# Altium footprint library SG_PCB_AltSobor_work.PcbLib: 52 footprints (part 3 of 4)
Each footprint in its own frame and in the unit in brackets; x right, y up, seen from the top. Pads: shape width x height; smd on the part's side, far side on the other; paste and mask are expansions set on the pad; w line width, h text height; cw(c..) or ccw(c..) is an arc to the next point about the centre after c.
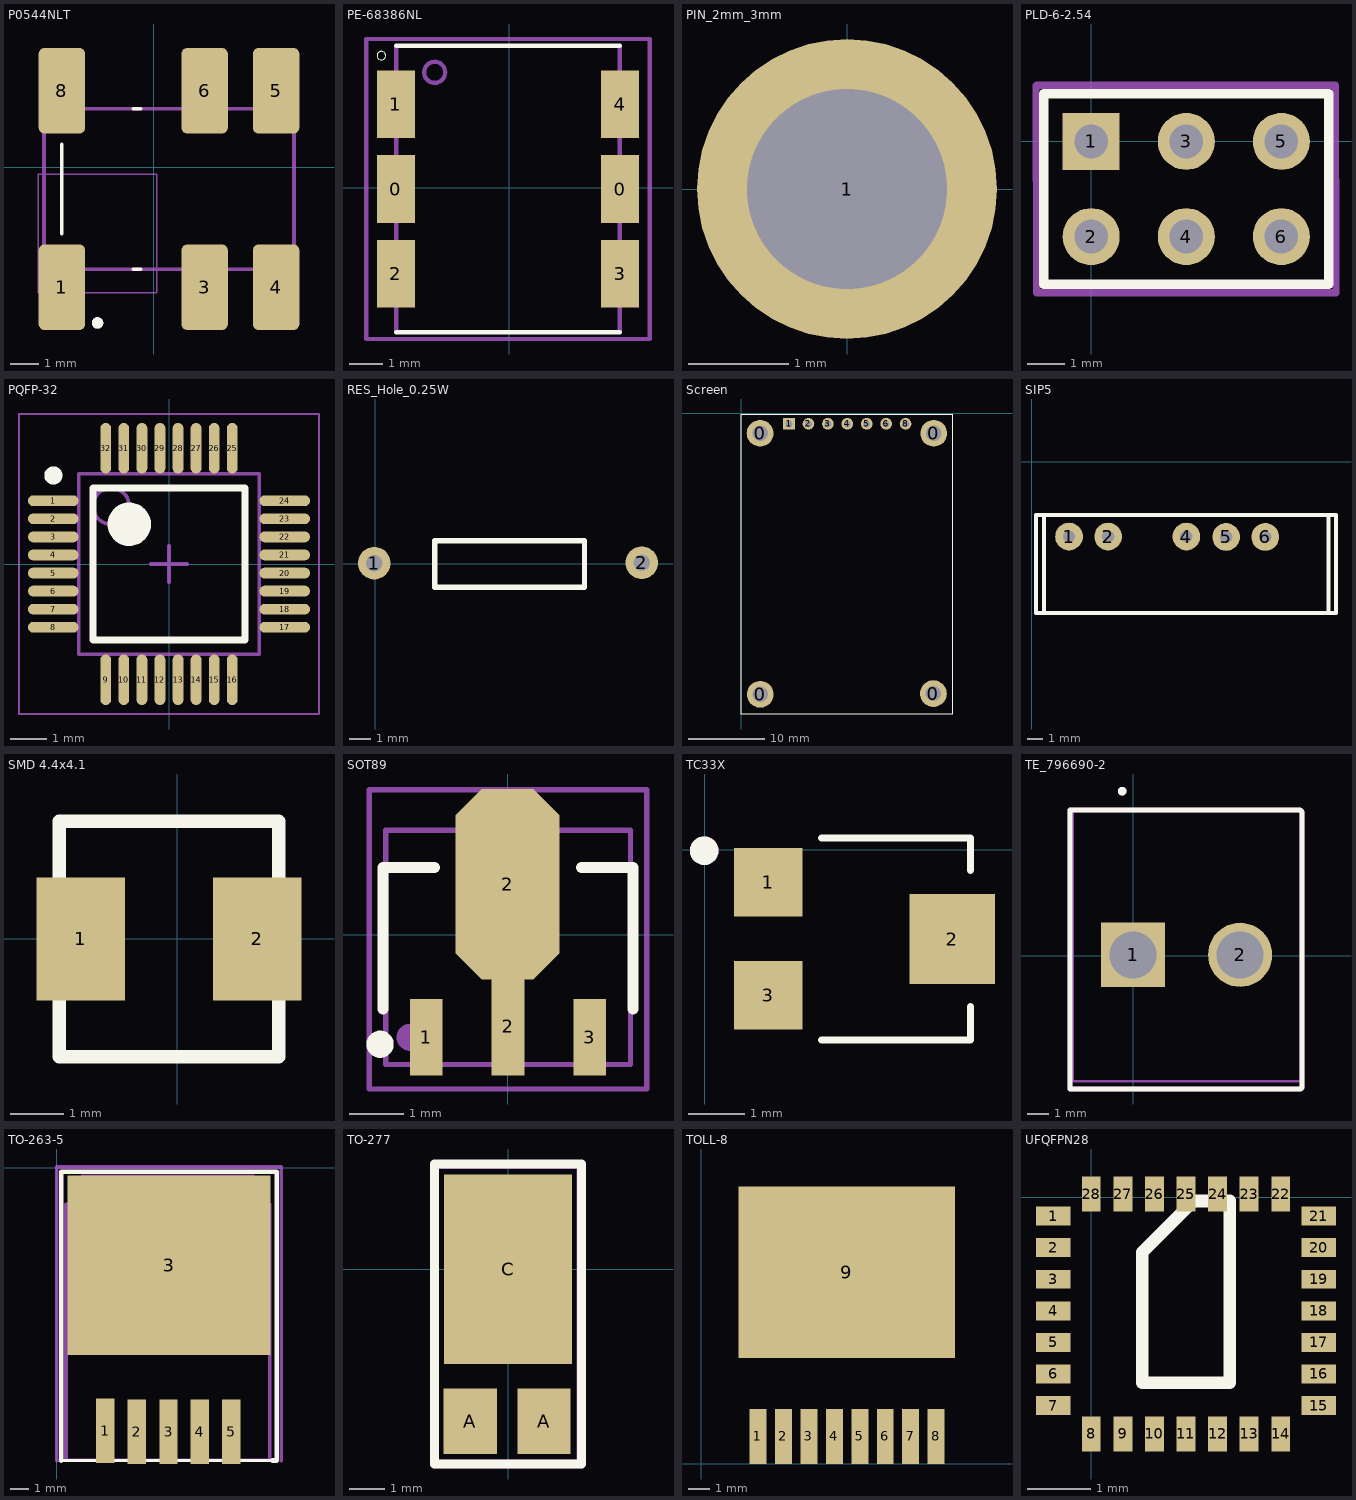
[diagram p2: the footprints below, top view; thin cyan lines are the x and y axes]

## P0544NLT [mm]
pads (6):
  rrect25% 1.651x3.048 smd: 1(-3.26,-4.27) 3(1.82,-4.27) 4(4.36,-4.27) 5(4.36,2.715) 6(1.82,2.715) 8(-3.26,2.715)
Top Overlay:
  circle w0.203: c-1.99,-5.54 r0.102
  lines w0.127: -3.26,-2.365 -3.26,0.81 ; -0.72,-3.635 -0.45,-3.635 ; -0.72,2.08 -0.45,2.08
Mechanical 16:
  circle w0.203: c-1.99,-5.54 r0.102
  lines w0.127: -3.895,-3.635 -3.895,2.08 4.995,2.08 4.995,-3.635 -3.895,-3.635
Mechanical 27:
  lines w0.051: -4.098,-4.47 -4.098,-0.257 0.115,-0.257 0.115,-4.47 -4.098,-4.47

## PE-68386NL [mil]
pads (6):
  rect 45x80 smd: 0(-134.07,-1.38) 0(130.93,-1.38) 1(-134.07,98.62) 2(-134.07,-101.38) 3(130.93,-101.38) 4(130.93,98.62)
Top Overlay:
  circle w0: c-151.18,156.1 r5
  lines w5: -133.46,-170.67 130.31,-170.67 ; -133.46,167.91 130.31,167.91
Mechanical 13:
  circle w5: c-88.19,136.42 r12.45
  lines w5: -133.46,-170.67 -133.46,167.91 ; 130.31,-170.67 130.31,167.91
Mechanical 15:
  lines w5: -168.9,-178.54 -168.9,175.79 165.75,175.79 165.75,-178.54 -168.9,-178.54
3D body "PE-68386NL--3DModel-Eagle-1.STEP": height 90, standoff -8, extent -171.5,-136.44 168.5,128.56

## PIN_2mm_3mm [mm]
pads (1):
  round 3 hole 2: 1(0,0)

## PLD-6-2.54 [mm]
pads (6):
  rect 1.524x1.524 hole 0.9: 1(0.005,0)
  round 1.524 hole 0.9: 2(0.005,-2.54) 3(2.545,0) 4(2.545,-2.54) 5(5.085,0) 6(5.085,-2.54)
Top Overlay:
  lines w0.254: -1.265,-3.81 -1.265,-1.27 -1.265,1.27 6.355,1.27 6.355,-1.27 6.355,-3.81 -1.265,-3.81
Top Courtyard:
  lines w0.2: -1.47,-1.04 -1.47,1.495 ; -1.455,-1.04 -1.455,-4.04 6.545,-4.04 6.545,-1.04 ; -1.455,1.5 6.53,1.5 6.53,-1.505
3D body "PLS1.stp": height 8.54, standoff -3, extent -1.265,-1.27 1.275,1.27
3D body "PLS1.stp": height 8.54, standoff -3, extent 1.275,-1.27 3.815,1.27
3D body "PLS1.stp": height 8.54, standoff -3, extent 3.815,-1.27 6.355,1.27
3D body "PLS1.stp": height 8.54, standoff -3, extent -1.265,-3.81 1.275,-1.27
3D body "PLS1.stp": height 8.54, standoff -3, extent 1.275,-3.81 3.815,-1.27
3D body "PLS1.stp": height 8.54, standoff -3, extent 3.815,-3.81 6.355,-1.27

## PQFP-32 [mm] "PQFP, 32-Leads, Body 5,00x5,00mm, Pitch 0,50mm, IPC Medium Density"
height 1.2
pads (32):
  oval 1.4x0.3 smd: 1(-3.2,1.75) 2(-3.2,1.25) 3(-3.2,0.75) 4(-3.2,0.25) 5(-3.2,-0.25) 6(-3.2,-0.75) 7(-3.2,-1.25) 8(-3.2,-1.75) 17(3.2,-1.75) 18(3.2,-1.25) 19(3.2,-0.75) 20(3.2,-0.25) 21(3.2,0.25) 22(3.2,0.75) 23(3.2,1.25) 24(3.2,1.75)
  oval 0.3x1.4 smd: 9(-1.75,-3.2) 10(-1.25,-3.2) 11(-0.75,-3.2) 12(-0.25,-3.2) 13(0.25,-3.2) 14(0.75,-3.2) 15(1.25,-3.2) 16(1.75,-3.2) 25(1.75,3.2) 26(1.25,3.2) 27(0.75,3.2) 28(0.25,3.2) 29(-0.25,3.2) 30(-0.75,3.2) 31(-1.25,3.2) 32(-1.75,3.2)
Top Overlay:
  circle w0.25: c-3.2,2.45 r0.125
  circle w0.6: c-1.1,1.1 r0.3
  lines w0.2: -2.1,-2.1 -2.1,2.1 2.1,2.1 2.1,-2.1 -2.1,-2.1
Top Assembly:
  circle w0.1: c-1.6,1.6 r0.5
  lines w0.1: -2.5,-2.5 -2.5,2.5 2.5,2.5 2.5,-2.5 -2.5,-2.5
Top Courtyard:
  lines w0.05: -4.15,-4.15 -4.15,4.15 4.15,4.15 4.15,-4.15 -4.15,-4.15
  lines w0.1: -0.5,0 0.5,0 ; 0,-0.5 0,0.5
3D body "PQFP-32.step": height 1.2, standoff 0, extent -3.5,-3.5 3.5,3.5

## RES_Hole_0.25W [mil]
pads (2):
  round 60 hole 30: 1(-1.57,1.18) 2(491.34,1.97)
Top Overlay:
  lines w10: 110.24,-42.83 110.24,42.17 385.83,42.17 385.83,-42.83 110.24,-42.83
3D body "User Library-resistor 0_25w.STEP": height 100, standoff -120, extent -12.58,-51.18 509.43,48.82

## Screen [mm]
pads (11):
  round 3.5 hole 2: 0(2.485,-2.605) 0(2.5,-36.75) 0(25.15,-36.65) 0(25.195,-2.605)
  rect 1.524x1.524 hole 0.9: 1(6.27,-1.365)
  round 1.524 hole 0.9: 2(8.81,-1.365) 3(11.35,-1.365) 4(13.89,-1.365) 5(16.43,-1.365) 6(18.97,-1.365) 8(21.51,-1.365)
Top Overlay:
  lines w0.15: 0,-39.32 0,-0.1 27.7,-0.1 ; 0,-39.3 27.7,-39.3 27.7,-0.08

## SIP5 [mm]
pads (5):
  round 1.8 hole 0.8: 1(2.425,-4.852) 2(4.965,-4.852) 4(10.045,-4.852) 5(12.631,-4.877) 6(15.171,-4.877)
Top Overlay:
  lines w0.254: 0.785,-9.809 0.785,-3.459 ; 19.265,-9.66 19.265,-3.56 ; 0.277,-9.809 0.277,-3.459 19.765,-3.459 19.765,-9.809 0.277,-9.809
3D body "TMA0505S.stp": height 10.55, standoff -5, extent 0.37,-9.655 19.87,-3.555

## SMD 4.4x4.1 [mm]
pads (2):
  rect 1.65x2.3 smd: 1(-1.8,0) 2(1.5,0)
Top Overlay:
  lines w0.254: -2.2,-2.2 1.9,-2.2 1.9,2.2 -2.2,2.2 -2.2,-2.2

## SOT89 [mm]
pads (5):
  rect 0.6x1.4 smd: 1(-1.498,-1.887) 3(1.502,-1.887)
  oct 1.91x3.5 smd: 2(-0.005,0.925)
  rect 0.6x1.8 smd: 2(0.002,-1.687)
  round 0.5 on Mech1: ""(-1.798,-1.887)
Top Overlay:
  circle w0.25: c-2.348,-2.014 r0.125
  lines w0.2: -2.298,-1.364 -2.298,1.236 -1.348,1.236 ; 1.352,1.236 2.302,1.236 2.302,-1.364
Mechanical 1:
  lines w0.1: -2.248,-2.386 2.252,-2.386 2.252,1.914 -2.248,1.914 -2.248,-2.386
Mechanical 15:
  lines w0.1: -0.498,-0.064 0.502,-0.064 ; 0.002,-0.564 0.002,0.436 ; -2.548,-2.837 -2.548,2.663 2.552,2.663 2.552,-2.837 -2.548,-2.837
3D body "SOT-89.step": height 1.51, standoff 0, extent -2.248,-2.386 2.252,1.914

## TC33X [mil]
pads (3):
  rect 48x48 smd: 1(44.53,-22.56) 3(44.53,-101.93)
  rect 60x63 smd: 2(173.39,-62.56)
Top Overlay:
  circle w10: c-0.58,-0.56 r5
  lines w5: 81.93,-133.43 186.39,-133.43 186.39,-109.8 ; 81.93,8.44 186.39,8.44 186.39,-14.56
Mechanical 16:
  circle w10: c-0.58,-0.56 r5
3D body "TC33X-2-103E.STEP": height 43.31, standoff -3.94, extent 34.06,-120.67 183.66,-2.56

## TE_796690-2 [mm]
pads (2):
  rect 3x3 hole 2.2: 1(-0.01,0.035)
  round 3 hole 2.2: 2(4.99,0.035)
Top Overlay:
  circle w0.2: c-0.525,7.685 r0.1
  lines w0.254: -2.96,-6.235 -2.96,6.805 7.78,6.805 7.88,6.705 7.88,-6.165 7.81,-6.235 -2.96,-6.235
Bottom Assembly:
  circle w0.2: c-0.51,7.685 r0.1
  lines w0.127: -2.845,-5.87 7.88,-5.87 7.88,6.755 -2.845,6.755 -2.845,-5.87
Top Courtyard:
  lines w0.254: -2.96,-6.235 7.81,-6.235 7.88,-6.165 7.88,6.705 7.78,6.805 -2.96,6.805 -2.96,-6.235
3D body "796690-2--3DModel-STEP-1.STEP": height 15, standoff -3.8, extent -2.76,-5.788 7.74,6.715

## TO-263-5 [mm]
pads (6):
  rect 1x3.5 smd: 1(2.641,-14.264) 2(4.345,-14.305) 3(6.07,-14.305) 4(7.765,-14.31) 5(9.465,-14.305)
  rect 11x9.75 smd: 3(6.096,-5.284)
Top Overlay:
  lines w0.15: 0.254,-15.875 11.708,-15.875
  lines w0.254: 0.254,-15.875 0.254,-0.204 11.938,-0.204 11.938,-15.875 11.708,-15.875
Top Assembly:
  lines w0.15: 0.508,-15.85 11.372,-15.85
  lines w0.2: 0.508,-15.85 0.508,-1.982 0.635,-1.982 ; 0.572,-1.982 11.557,-1.982 11.557,-15.85 11.372,-15.85 ; 1.651,-1.982 1.397,-1.982 1.397,-0.458 10.668,-0.458 10.668,-1.982
Top Courtyard:
  lines w0.15: 0,-15.875 11.962,-15.875
  lines w0.2: 0,-15.875 0,-0.204 0,0.05 12.192,0.05 12.192,-15.875
3D body "TO263-5-1.stp": height 4.22, standoff 0, extent 1.153,-14.971 10.975,-0.369

## TO-277 [mm]
pads (3):
  rect 1.5x1.85 smd: A(-1.065,-4.3) A(1.02,-4.3)
  rect 3.6x5.35 smd: C(0,0)
Top Overlay:
  lines w0.254: -2.08,-5.505 -2.08,2.965 2.07,2.965 2.07,-5.505 -2.08,-5.505
Top Courtyard:
  lines w0.254: -2.08,-5.505 -2.08,2.945 2.025,2.945 2.055,2.915 2.055,-5.5 2.06,-5.505 -2.08,-5.505
3D body "SS3P3-M3_85A.STEP": height 1.2, standoff 0, extent -2.327,-4.395 2.273,2.105

## TOLL-8 [mm]
pads (9):
  rect 0.8x2.6 smd: 1(2.679,1.291) 2(3.88,1.29) 3(5.083,1.288) 4(6.285,1.29) 5(7.485,1.29) 6(8.685,1.29) 7(9.885,1.29) 8(11.085,1.29)
  rect 10.2x8.1 smd: 9(6.87,9.035)
3D body: height 2.29, standoff -0.2, extent 1.655,0.625 12.06,12.185

## UFQFPN28 [mm]
pads (28):
  rect 0.55x0.3 smd: 1(-0.6,-0.3) 2(-0.6,-0.8) 3(-0.6,-1.3) 4(-0.6,-1.8) 5(-0.6,-2.3) 6(-0.6,-2.8) 7(-0.6,-3.3) 15(3.6,-3.3) 16(3.6,-2.8) 17(3.6,-2.3) 18(3.6,-1.8) 19(3.6,-1.3) 20(3.6,-0.8) 21(3.6,-0.3)
  rect 0.3x0.55 smd: 8(0,-3.75) 9(0.5,-3.75) 10(1,-3.75) 11(1.5,-3.75) 12(2,-3.75) 13(2.5,-3.75) 14(3,-3.75) 22(3,0.05) 23(2.5,0.05) 24(2,0.05) 25(1.5,0.05) 26(1,0.05) 27(0.5,0.05) 28(0,0.05)
Top Overlay:
  lines w0.2: 0.81,-2.94 2.19,-2.94 2.19,-0.06 1.62,-0.06 0.81,-0.87 0.81,-2.94